# Altium schematic symbol library SK6812MINI.SchLib: 1 symbol
Pins are listed as number, name and electrical type; pins without a type are passive.

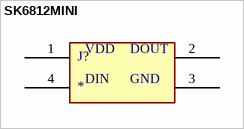
[diagram p0: symbol SK6812MINI]

## SK6812MINI
designator J?
INTEGRATED LIGHT SOURCE INTELLIGENT CONTROL OF CHIP-ON-TOP SMD TYPE LED; MP: SK6812MINI; MF: DONGGUANG OPSCO OPTOELECTRONICS CO., LTD; Check_prices: https://www.snapeda.com/parts/SK6812MINI/DONGGUANG+OPSCO+OPTOELECTRONICS+CO.%252C+LTD/view-part/?ref=eda; Package: Package; Price: None; Availability: Not in stock; SnapEDA_Link: https://www.snapeda.com/parts/SK6812MINI/DONGGUANG+OPSCO+OPTOELECTRONICS+CO.%252C+LTD/view-part/?ref=snap; Value: *
footprint LED-3535
pins: 1 VDD, 2 DOUT, 3 GND, 4 DIN